# EAGLE library part DS3231M (library awqua_eagle_library)
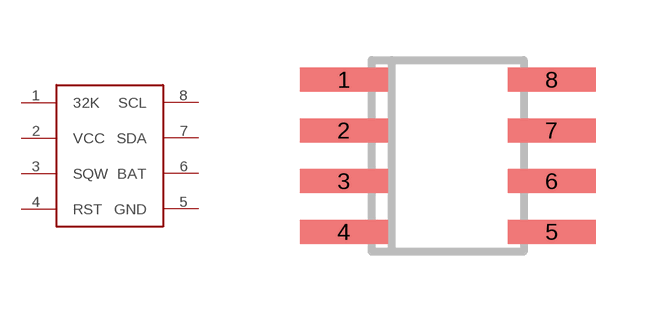
[diagram p3: symbol with the pads of DS3231M; footprint DS3231M]

Designator prefix -

## DS3231M  [DS3231M]
1  32K
2  VCC
3  SQW
4  RST
5  GND
6  BAT
7  SDA
8  SCL

## Footprint DS3231M (pad centres in mm)
smd 2.2 x 0.6: 1 -2.6,1.905; 2 -2.6,0.635; 3 -2.6,-0.635; 4 -2.6,-1.905; 5 2.6,-1.905; 6 2.6,-0.635; 7 2.6,0.635; 8 2.6,1.905